# Altium footprint library Vishay_Library.PcbLib: 12 footprints
Each footprint in its own frame and in the unit in brackets; x right, y up, seen from the top. Pads: shape width x height; smd on the part's side, far side on the other; paste and mask are expansions set on the pad; w line width, h text height; cw(c..) or ccw(c..) is an arc to the next point about the centre after c.
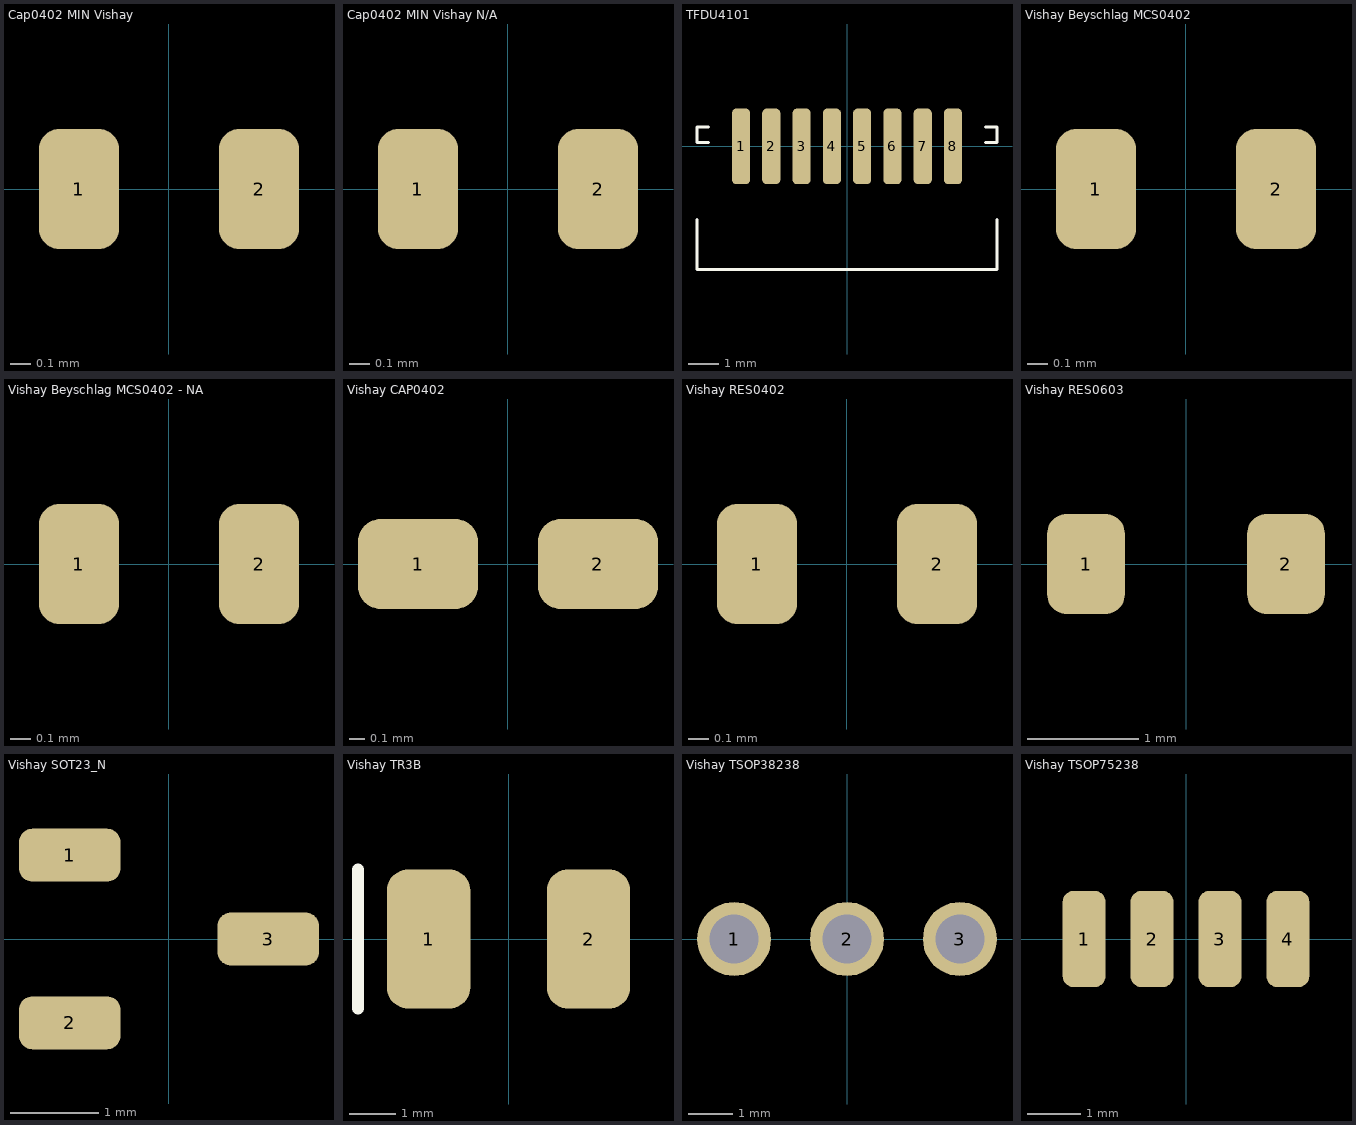
[diagram p0: the footprints below, top view; thin cyan lines are the x and y axes]

## Cap0402 MIN Vishay [mm]
height 0.55
pads (2):
  rrect50% 0.4x0.6 smd: 1(-0.45,0) 2(0.45,0)
3D body "CAP0402.stp": height 0.2, standoff 0, extent -0.5,-0.3 0.5,0.3

## Cap0402 MIN Vishay N/A [mm]
height 0.55
pads (2):
  rrect50% 0.4x0.6 smd: 1(-0.45,0) 2(0.45,0)

## TFDU4101 [mm] "TFDU4101 IR Tranceiver"
pads (8):
  rrect50% 0.6x2.5 smd: 1(-3.5,0) 2(-2.5,0) 3(-1.5,0) 4(-0.5,0) 5(0.5,0) 6(1.5,0) 7(2.5,0) 8(3.5,0)
Top Overlay:
  lines w0.1: -4.953,-2.413 -4.953,-4.064 4.953,-4.064 4.953,-2.413 ; -4.572,0.127 -4.953,0.127 -4.953,0.635 -4.572,0.635 ; 4.572,0.127 4.953,0.127 4.953,0.635 4.572,0.635
3D body "84407TFDU4101.stp": height 4.1, standoff 0, extent -4.95,-4.064 4.95,0.636

## Vishay Beyschlag MCS0402 [mm] "Vishay MCS0402"
height 0.55
pads (2):
  rrect50% 0.4x0.6 smd: 1(-0.45,0) 2(0.45,0)
3D body "0402_Vishay_Beyschlag_MCS0402.x_t": height 0.31, standoff -0.01, extent -0.5,-0.25 0.5,0.25

## Vishay Beyschlag MCS0402 - NA [mm] "Vishay MCS0402 Not Mounted"
height 0.55
pads (2):
  rrect50% 0.4x0.6 smd: 1(-0.45,0) 2(0.45,0)

## Vishay CAP0402 [mm] "Chip Capacitor, 2-Leads, Body 1.0x0.5mm, IPC Medium Density"
height 0.5
pads (2):
  rrect50% 0.8x0.6 smd: 1(-0.6,0) 2(0.6,0)
3D body "CAP0402.stp": height 0.2, standoff 0, extent -0.5,-0.3 0.5,0.3

## Vishay RES0402 [mm]
pads (2):
  rrect50% 0.4x0.6 smd: 1(-0.45,0) 2(0.45,0)
3D body "RES0402.stp": height 0.3, standoff 0, extent -0.5,-0.25 0.5,0.25

## Vishay RES0603 [mm] "Chip Resistor, 2-Leads, Body 1.6x0.8mm, IPC Medium Density"
height 0.5
pads (2):
  rrect50% 0.7x0.9 smd: 1(-0.9,0) 2(0.9,0)
3D body "RES0603.stp": height 0.45, standoff 0, extent -0.8,-0.4 0.8,0.4

## Vishay SOT23_N [mm] "SOT23, 3-Leads, Body 2.9x1.3mm, Pitch 0.95mm, Lead Span 2.3mm - Reverse Pinning, IPC Medium Density"
height 1.1
pads (3):
  rrect50% 1.15x0.6 smd: 1(-1.125,0.95) 2(-1.125,-0.95) 3(1.125,0)
3D body: height 1.1, standoff 0, extent -0.7,-1.5 0.7,1.5

## Vishay TR3B [mm]
pads (2):
  rrect50% 1.8x3 smd: 1(-1.725,0) 2(1.725,0)
Top Overlay:
  lines w0.254: -3.25,-1.5 -3.25,1.5
3D body "User Library-QT02752.step": height 1.95, standoff 0.04, extent -1.831,-1.4 1.832,1.4

## Vishay TSOP38238 [mm] "TSOP38238 IR Receiver"
pads (3):
  round 1.665 hole 1.11: 1(-2.54,0) 2(0,0) 3(2.54,0)
3D body "TSOP38238_trimmed.x_t": height 8.37, standoff -2.47, extent -2.965,-3.429 2.965,1.371

## Vishay TSOP75238 [mm] "TSOP75238 IR Receiver"
pads (4):
  rrect50% 0.8x1.8 smd: 1(-1.905,0) 2(-0.635,0) 3(0.635,0) 4(1.905,0)
3D body "TSOP752xxW.stp": height 3.05, standoff -0.05, extent -3.45,-2.212 3.45,0.288